# Altium schematic symbol library QUARTZ_4P.SchLib: 1 symbol
Pins are listed as number, name and electrical type; pins without a type are passive.

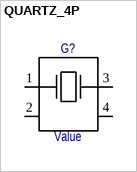
[diagram p0: symbol QUARTZ_4P]

## QUARTZ_4P
designator G?  (value not drawn)
Crystal 4 pins; Value: Value
pins: 1, 2, 3, 4